# Altium schematic symbol library MMBZ27VCL-7-F.SchLib: 1 symbol
Pins are listed as number, name and electrical type; pins without a type are passive.

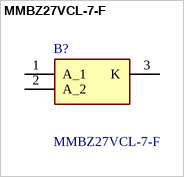
[diagram p0: symbol MMBZ27VCL-7-F]

## MMBZ27VCL-7-F
designator B?
ESD Suppressors / TVS Diodes 225MW 22V; Manufacturer_Name: Diodes Inc.; Geometry.Height: 1.2mm; Manufacturer_Part_Number: MMBZ27VCL-7-F; Mouser Part Number: 621-MMBZ27VCL-7-F; Mouser Price/Stock: https://www.mouser.co.uk/ProductDetail/Diodes-Incorporated/MMBZ27VCL-7-F?qs=zpnZCIghiEx6bIJf9W4zmw%3D%3D; Arrow Part Number: MMBZ27VCL-7-F; Arrow Price/Stock: https://www.arrow.com/en/products/mmbz27vcl-7-f/diodes-incorporated?region=nac; Datasheet Link: https://www.diodes.com/assets/Datasheets/MMBZ27VCL.pdf
footprint SOT96P240X120-3N
pins: 1 A_1, 2 A_2, 3 K